# Altium schematic symbol library LTC6820.SchLib: 1 symbol
Pins are listed as number, name and electrical type; pins without a type are passive.

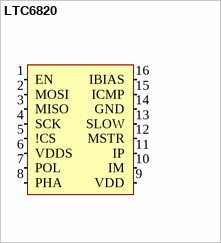
[diagram p0: symbol LTC6820]

## LTC6820
designator U?
Manufacturer_id: 1; idFuse: 3; Name: 3568 Mini Fuse Holder; Drawer_id: 1
pins: 1 EN (in), 2 MOSI (in), 3 MISO (in), 4 SCK (in), 5 !CS (in), 6 VDDS (in), 7 POL (in), 8 PHA (in), 9 VDD (in), 10 IM (in), 11 IP (in), 12 MSTR (in), 13 SLOW (in), 14 GND (in), 15 ICMP (in), 16 IBIAS (in)